# EAGLE library part RF_NRF24L01P (library custom)
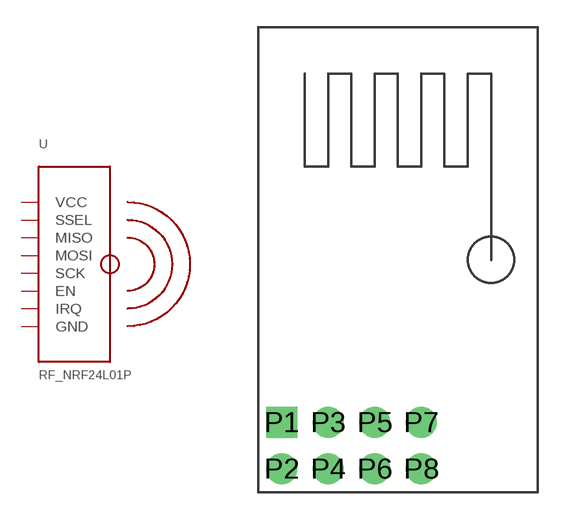
[diagram p17: symbol with the pads of RF_NRF24L01P; footprint RF_NRF24L01P]

Designator prefix -

## RF_NRF24L01P  [RF_NRF24L01P]
P1  VCC
P2  GND
P3  SSEL
P4  EN
P5  MOSI
P6  SCK
P7  IRQ
P8  MISO

## Footprint RF_NRF24L01P (pad centres in mm)
drill 0.7 pad 1.676 square: P1 -3.81,1.27
drill 0.7 pad 1.676: P2 -3.81,-1.27; P3 -1.27,1.27; P4 -1.27,-1.27; P5 1.27,1.27; P6 1.27,-1.27; P7 3.81,1.27; P8 3.81,-1.27